# Altium schematic symbol library Aluminum Electrolytic Capacitors.SchLib: 3 symbols
Pins are listed as number, name and electrical type; pins without a type are passive.

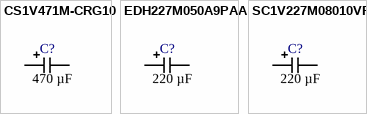
[diagram p0: symbols CS1V471M-CRG10 to SC1V227M08010VR]

## CS1V471M-CRG10
designator C?  Capacitance: 470 µF  (hidden comment: *)
CAP ALUM 470UF 20% 35V SMD
footprint SEMTECH_CS-100X105
pins: 1, 2

## EDH227M050A9PAA
designator C?  Capacitance: 220 µF  (hidden comment: *)
CAP ALUM 220UF 20% 50V SMD; Supplier 1: Digi-Key; Supplier 2: Mouser; Supplier Part Number 1: 399-EDH227M050A9PAADKR-ND; Supplier Part Number 2: 80-EDH227M050A9PAA
footprint KEMET_EDH227M
pins: 1, 2

## SC1V227M08010VR
designator C?  Capacitance: 220 µF  (hidden comment: *)
CAP ALUM 220UF 20% 35V SMD
footprint SAMWHA_SC-100X100
pins: 1, 2